# Altium footprint library display_frame.PcbLib: 3 footprints
Each footprint in its own frame and in the unit in brackets; x right, y up, seen from the top. Pads: shape width x height; smd on the part's side, far side on the other; paste and mask are expansions set on the pad; w line width, h text height; cw(c..) or ccw(c..) is an arc to the next point about the centre after c.
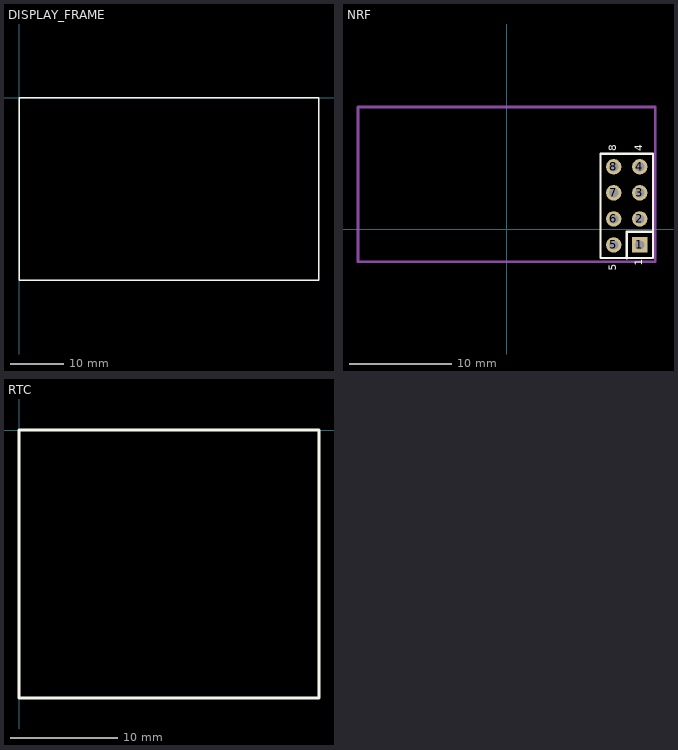
[diagram p0: the footprints below, top view; thin cyan lines are the x and y axes]

## DISPLAY_FRAME [mm]
Top Layer:
  text "ADAFRUIT" at 8.636,-2.54 h1.52
Top Overlay:
  lines w0.254: 0,-34 56,-34 56,0 0,0 0,-34

## NRF [mm] "Connector; Header; 4x2 Position"
height 27.05
pads (8):
  rect 1.5x1.5 hole 0.9: 1(12.954,-1.524)
  round 1.5 hole 0.9: 2(12.954,1.016) 3(12.954,3.556) 4(12.954,6.096) 5(10.414,-1.524) 6(10.414,1.016) 7(10.414,3.556) 8(10.414,6.096)
Top Overlay:
  lines w0.2: 9.144,-2.794 14.224,-2.794 14.224,7.366 9.144,7.366 9.144,-2.794
  lines w0.254: 11.684,-2.794 11.684,-0.508 11.684,-0.254 14.224,-0.254
  text "5" at 10.922,-4.064 h1.27
  text "1" at 13.462,-3.556 h1.27
  text "4" at 13.462,7.62 h1.27
  text "8" at 10.922,7.62 h1.27
Mechanical 1:
  lines w0.254: -14.522,-3.175 -14.522,11.925 14.478,11.925 14.478,-3.175 -14.522,-3.175

## RTC [mm]
Top Overlay:
  lines w0.254: 0,-25 0,0 28,0 28,-25 0,-25